# EAGLE library part IC_TI_TPS43061 (library PCB_KioskMB_r3.3-05)
TI TPS43061 boost converter
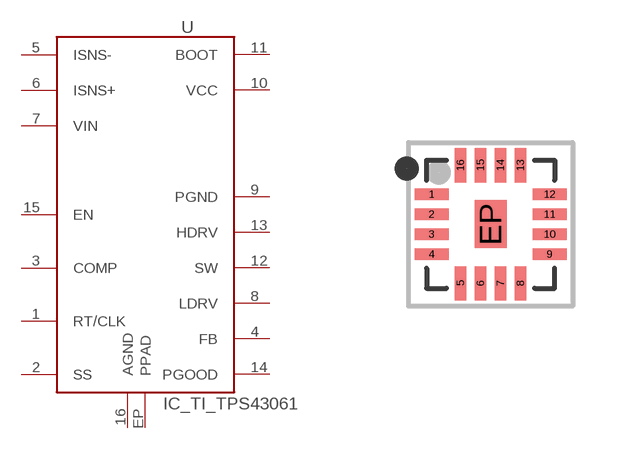
[diagram p2: symbol with the pads of QFN16_3X3_EP; footprint QFN16_3X3_EP]

Designator prefix U

## IC_TI_TPS43061RTE (MANUFACTURER: TI; MFR_PN: TPS43061RTE)  [QFN16_3X3_EP]
1  RT/CLK  pas
2  SS  pas
3  COMP  pas
4  FB  in
5  ISNS-  in
6  ISNS+  in
7  VIN  pwr
8  LDRV  out
9  PGND  pwr
10  VCC  out
11  BOOT  pas
12  SW  out
13  HDRV  out
14  PGOOD  oc
15  EN  in
16  AGND  pwr
EP  PPAD  pwr

## Footprint QFN16_3X3_EP (pad centres in mm)
QFN (PWQFN) 16-pin 3 x 3 mm w/ center pad -- TI RTE pkg.
smd 0.85 x 0.28: 1 -1.475,0.75; 2 -1.475,0.25; 3 -1.475,-0.25; 4 -1.475,-0.75; 9 1.475,-0.75; 10 1.475,-0.25; 11 1.475,0.25; 12 1.475,0.75
smd 0.28 x 0.85: 5 -0.75,-1.475; 6 -0.25,-1.475; 7 0.25,-1.475; 8 0.75,-1.475; 13 0.75,1.475; 14 0.25,1.475; 15 -0.25,1.475; 16 -0.75,1.475
smd 0.8 x 1.2: EP 0,0